# Altium footprint library ELRS-RX-MODULE-V11-20260204.PcbLib: 17 footprints (part 1 of 2)
Each footprint in its own frame and in the unit in brackets; x right, y up, seen from the top. Pads: shape width x height; smd on the part's side, far side on the other; paste and mask are expansions set on the pad; w line width, h text height; cw(c..) or ccw(c..) is an arc to the next point about the centre after c.
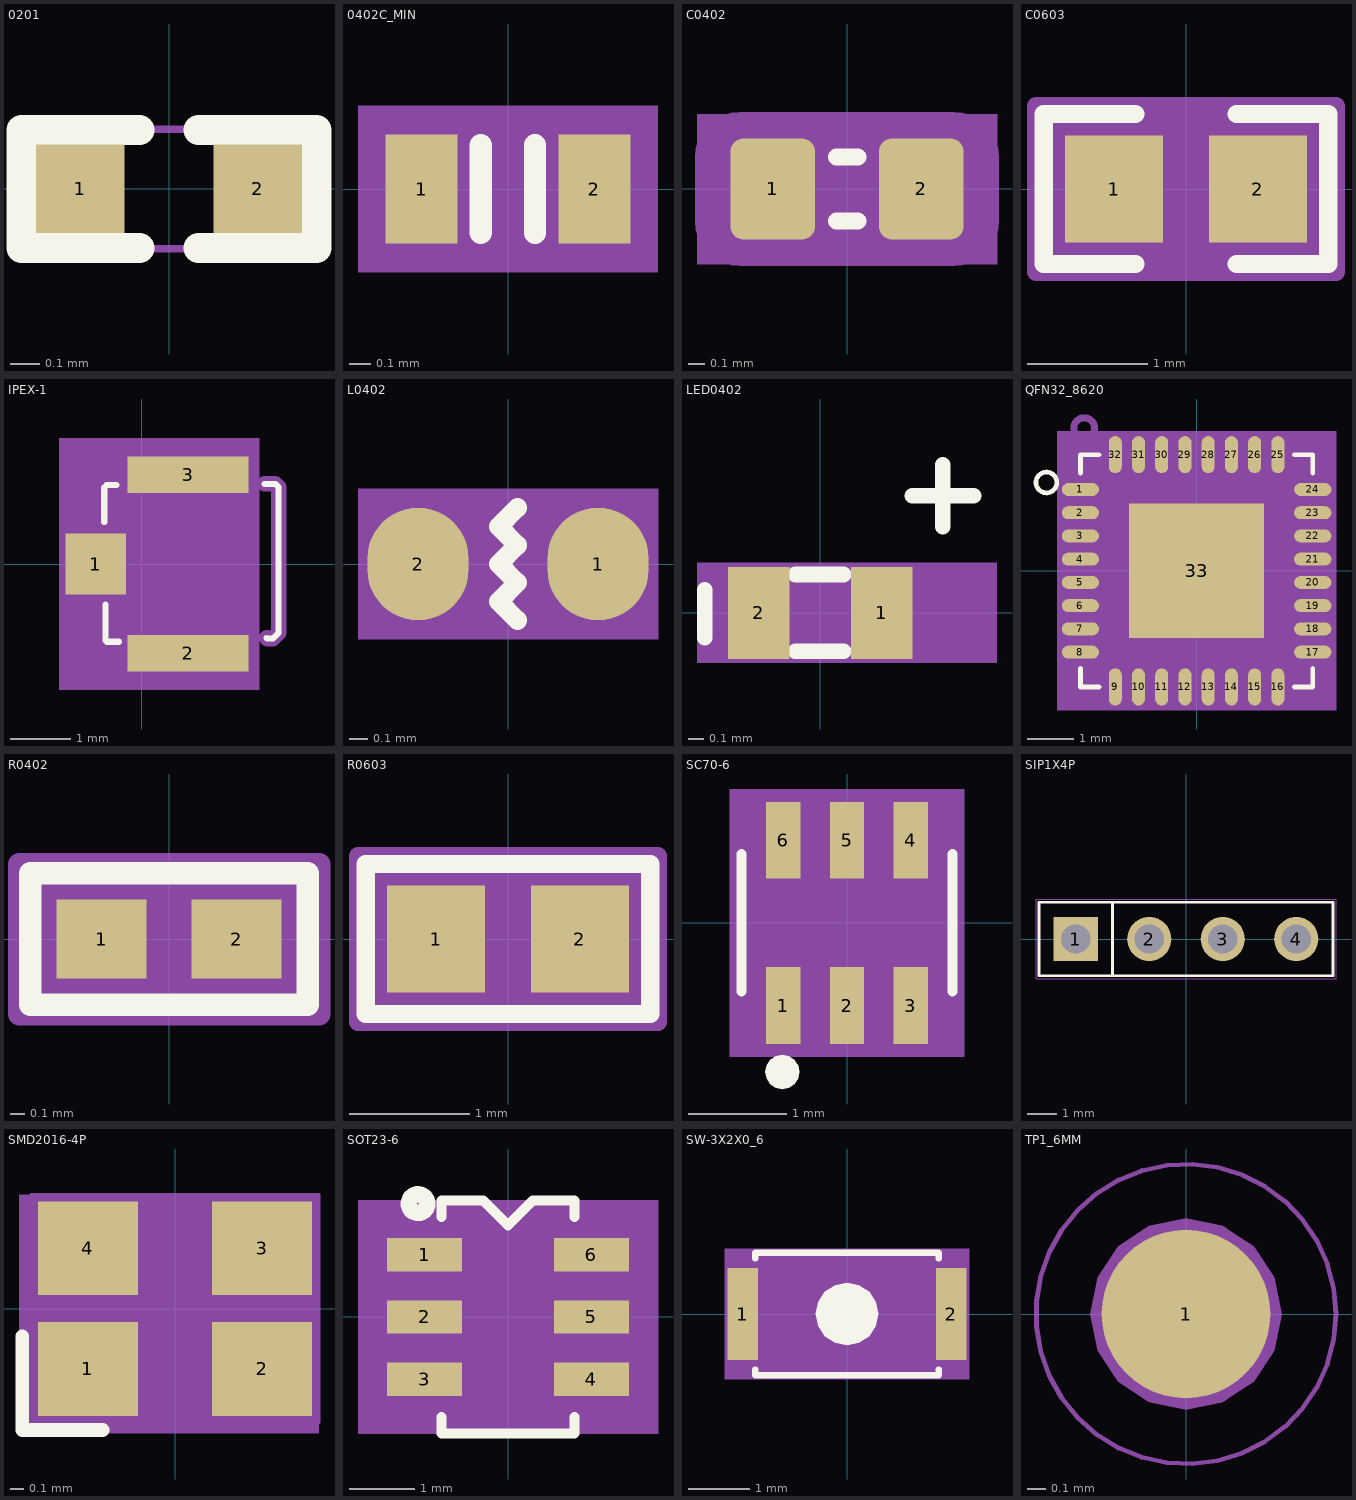
[diagram p0: the footprints below, top view; thin cyan lines are the x and y axes]

## 0201 [mil] "0201"
pads (2):
  rect 11.81x11.81 smd: 1(-11.81,0) 2(11.81,0)
Top Overlay:
  lines w4: -3.94,-7.88 -19.69,-7.88 -19.69,7.87 -3.94,7.87 ; 3.93,-7.88 19.68,-7.88 19.68,7.87 3.93,7.87
Top Assembly:
  lines w1: -20,-8 20,-8 20,7.98 -20,7.98 -20,-8
Mechanical 27:
  lines w2.36: -3.94,-7.88 -19.69,-7.88 -19.69,7.87 -3.94,7.87 ; 3.93,-7.88 19.68,-7.88 19.68,7.87 3.93,7.87
  text "C183" at 13.54,-40.79 h25

## 0402C_MIN [mil] "0402C_MIN"
pads (2):
  rect 12.99x19.69 smd: 1(-15.55,0) 2(15.55,0)
Top Overlay:
  lines w4: -4.89,-7.87 -4.89,7.87 ; 4.88,-7.87 4.88,7.87
Top 3D Body:
  region: -27.01,-15 27.01,-15 27.01,15 -27.01,15
Mechanical 16:
  text "1" at -21.98,0 h16.06
  text "2" at 9.13,0 h16.06
Top Assembly:
  lines w1: -20,-10 20,-10 20,10 -20,10 -20,-10
Mechanical 27:
  lines w5.91: -4.89,-7.87 -4.89,7.87 ; 4.88,-7.87 4.88,7.87
  text "C185" at 55.23,76.5 h25
3D body: height 150, standoff 0, extent -27.01,-15 27.01,15

## C0402 [mil] "C0402"
pads (2):
  rrect30% 19.67x23.61 smd: 1(-17.32,0) 2(17.32,0)
Top Overlay:
  lines w4: -2.49,-7.51 2.51,-7.51 ; -2.49,7.49 2.51,7.49
Top 3D Body:
  region: -35,17.49 -35,-17.51 35,-17.51 35,17.49
Mechanical 16:
  text "1" at -49.06,-6.29 h50
  text "2" at -15.95,-6.29 h50
Top Assembly:
  lines w0.98: -3.98,-2 4.01,-2 ; -3.98,2.01 4.01,2.01 ; 0,-7 0,-2 ; 0,2.01 0,7.01
  lines w1: -35,-7.51 ccw(c-24.99,-7.5) -25,-17.51 25,-17.51 ccw(c25,-7.51) 35,-7.51 35,7.49 ccw(c25.01,7.5) 25,17.49 -25,17.49 ccw(c-25,7.49) -35,7.49 -35,-7.51
Top Component Outline:
  lines w1: 9.84,-9.84 9.84,9.85 -9.81,9.85 -9.81,-9.84 -19.69,-9.84 ; -19.69,-9.84 -19.69,9.85 ; -19.69,-9.84 19.72,-9.84 19.72,9.85 -19.69,9.85 ; -19.69,-9.84 -19.69,9.85
Mechanical 27:
  lines w5.98: -2.49,-7.51 2.51,-7.51 ; -2.49,7.49 2.51,7.49
  text "C5" at 40.07,-41.14 h25
3D body: height 150, standoff 0, extent -35,-17.51 35,17.49

## C0603 [mil] "C0603"
pads (2):
  rect 32x35 smd: 1(-23.5,0) 2(23.5,0)
Top Overlay:
  lines w6: -16.5,-24.5 -46.5,-24.5 -46.5,24.5 -16.5,24.5 ; 16.5,-24.5 46.5,-24.5 46.5,24.5 16.5,24.5
Top 3D Body:
  region: -49,-27 49,-27 49,27 -49,27
Mechanical 16:
  text "1" at -23.5,0 h25
  text "2" at 23.5,0 h25
Top Assembly:
  lines w6: -49,-27 -49,27 49,27 49,-27 -49,-27
Mechanical 22:
  text "inside pitch:15mil" at -90,-120 h25
  text "Padstack:pad32x35" at -90,-170 h25
3D body: height 150, standoff 0, extent -49,-27 49,27

## IPEX-1 [mm] "IPEX-1"
pads (3):
  rect 1x1 smd: 1(-0.762,0)
  rect 2x0.6 smd: 2(0.762,-1.476) 3(0.762,1.476)
Top Overlay:
  lines w0.102: -0.622,0.695 -0.622,1.26 -0.58,1.302 -0.423,1.302 ; -0.601,-0.666 -0.601,-1.262 -0.58,-1.283 -0.381,-1.283 ; 2.026,1.323 2.203,1.323 2.256,1.27 2.256,-1.137 2.162,-1.231 2.067,-1.231 2.057,-1.22
Top 3D Body:
  region: -1.363,-2.077 1.938,-2.077 1.938,2.076 -1.363,2.076
Mechanical 16:
  text "1" at -1.016,0 h0.64
  text "3" at 0.508,1.475 h0.64
  text "2" at 0.508,-1.476 h0.64
Mechanical 27:
  lines w0.254: -0.622,0.695 -0.622,1.26 -0.58,1.302 -0.423,1.302 ; -0.601,-0.666 -0.601,-1.262 -0.58,-1.283 -0.381,-1.283 ; 2.026,1.323 2.203,1.323 2.256,1.27 2.256,-1.137 2.162,-1.231 2.067,-1.231 2.057,-1.22
  text "J1" at -1.496,-1.457 h0.64
3D body: height 3.81, standoff 0, extent -1.363,-2.077 1.938,2.076

## L0402 [mm] "L0402"
pads (2):
  oval 0.54x0.6 smd: 1(0.48,0) 2(-0.48,0)
Top Overlay:
  lines w0.102: 0.05,-0.3 -0.05,-0.2 0.05,-0.1 -0.05,0 0.05,0.1 -0.05,0.2 0.05,0.3
Top 3D Body:
  region: -0.8,0.4 0.8,0.4 0.8,-0.4 -0.8,-0.4
Mechanical 16:
  text "1" at 0.074,0 h1.02
  text "2" at -0.886,0 h1.02
Top Assembly:
  lines w0.025: -0.5,-0.25 0.5,-0.25 0.5,0.25 -0.5,0.25 -0.5,-0.25
Mechanical 27:
  lines w0.152: 0.05,-0.3 -0.05,-0.2 0.05,-0.1 -0.05,0 0.05,0.1 -0.05,0.2 0.05,0.3
  text "B1" at 0.571,-0.74 h0.64
3D body: height 3.81, standoff 0, extent -0.8,-0.4 0.8,0.4

## LED0402 [mil] "LED0402"
pads (2):
  rect 15.75x23.62 smd: 1(15.75,0) 2(-15.75,0)
Top Overlay:
  lines w4: -29.53,-6.38 -29.53,5.98 ; -6.38,-9.84 5.98,-9.84 ; -6.38,9.84 5.98,9.84 ; 23.56,30 39.31,30 ; 31.43,22.13 31.43,37.87
Top 3D Body:
  region: -31.5,-12.8 45.28,-12.8 45.28,12.8 -31.5,12.8
Mechanical 16:
  text "1" at 5.75,0 h25
  text "2" at -25.75,0 h25
Top Component Outline:
  lines w1: 9.84,-9.84 9.84,9.84 -9.84,9.84 -9.84,-9.84 -19.69,-9.84 ; -19.69,-9.84 -19.69,9.84 ; -19.69,-9.84 19.69,-9.84 19.69,9.84 -19.69,9.84 ; -19.69,-9.84 -19.69,9.84
3D body: height 150, standoff 0, extent -31.5,-12.8 45.28,12.8

## QFN32_8620 [mil] "QFN32_8620"
pads (33):
  oval 31.5x11.02 smd: 1(-98.43,68.9) 2(-98.43,49.21) 3(-98.43,29.53) 4(-98.43,9.84) 5(-98.43,-9.84) 6(-98.43,-29.53) 7(-98.43,-49.21) 8(-98.43,-68.9) 17(98.43,-68.9) 18(98.43,-49.21) 19(98.43,-29.53) 20(98.43,-9.84) 21(98.43,9.84) 22(98.43,29.53) 23(98.43,49.21) 24(98.43,68.9)
  oval 11.02x31.5 smd: 9(-68.9,-98.43) 10(-49.21,-98.43) 11(-29.53,-98.43) 12(-9.84,-98.43) 13(9.84,-98.43) 14(29.53,-98.43) 15(49.21,-98.43) 16(68.9,-98.43) 25(68.9,98.43) 26(49.21,98.43) 27(29.53,98.43) 28(9.84,98.43) 29(-9.84,98.43) 30(-29.53,98.43) 31(-49.21,98.43) 32(-68.9,98.43)
  rect 114.17x114.17 smd: 33(0,0)
Top Overlay:
  circle w4: c-127.24,74.83 r8.82
  lines w4: -98.43,-82.68 -98.43,-98.43 -82.68,-98.43 ; -98.43,82.68 -98.43,98.42 -82.68,98.42 ; 82.67,-98.43 98.42,-98.43 98.42,-82.68 ; 82.67,98.42 98.42,98.42 98.42,82.68
Top 3D Body:
  region: -118.11,118.11 -118.11,-118.11 118.11,-118.11 118.11,118.11
Mechanical 16:
  text "7" at -130.43,-49.21 h40
  text "3" at -130.43,29.53 h40
  text "13" at -54.16,-98.43 h40
  text "19" at 34.42,-29.53 h40
  text "25" at 4.89,98.42 h40
  text "9" at -100.9,-98.43 h40
  text "10" at -113.22,-98.43 h40
  text "6" at -130.43,-29.53 h40
  text "20" at 34.42,-9.84 h40
  text "31" at -113.22,98.42 h40
  text "29" at -73.85,98.42 h40
  text "17" at 34.42,-68.9 h40
  text "18" at 34.42,-49.21 h40
  text "5" at -130.43,-9.84 h40
  text "22" at 34.42,29.53 h40
  text "12" at -73.85,-98.43 h40
  text "21" at 34.42,9.84 h40
  text "15" at -14.79,-98.43 h40
  text "14" at -34.48,-98.43 h40
  text "2" at -130.43,49.21 h40
  text "1" at -130.43,68.9 h40
  text "30" at -93.53,98.42 h40
  text "28" at -54.16,98.42 h40
  text "33" at -32,0 h40
  text "27" at -34.48,98.42 h40
  text "16" at 4.89,-98.43 h40
  text "24" at 34.42,68.9 h40
  text "23" at 34.42,49.21 h40
  text "4" at -130.43,9.84 h40
  text "32" at -132.9,98.42 h40
  text "8" at -130.43,-68.9 h40
  text "26" at -14.79,98.42 h40
  text "11" at -93.53,-98.43 h40
Mechanical 27:
  circle w5.91: c-95.24,120.83 r8.82
  lines w5.91: -98.43,-82.68 -98.43,-98.43 -82.68,-98.43 ; -98.43,82.68 -98.43,98.42 -82.68,98.42 ; 82.67,-98.43 98.42,-98.43 98.42,-82.68 ; 82.67,98.42 98.42,98.42 98.42,82.68
  text "U1" at -123.9,87.48 h25
3D body: height 150, standoff 0, extent -118.11,-118.11 118.11,118.11

## R0402 [mil] "R0402"
pads (2):
  rect 24x21 smd: 1(-18,0) 2(18,0)
Top Overlay:
  lines w6: -37,-17.5 37,-17.5 ; -37,-17 -37,17 ; -37,17.5 37,17.5 ; 37,-17 37,17
Top 3D Body:
  region: -40,-20 40,-20 40,20 -40,20
Mechanical 16:
  text "1" at -18,0 h15.75
  text "2" at 18,0 h15.75
Mechanical 18:
  text "Padstack:pad21x24" at -100,-160 h25
  text "inside pitch:12mil" at -100,-110 h25
Top Assembly:
  lines w6: -40,-20 -40,20 40,20 40,-20 -40,-20
  text ".Designator" at 17.01,7.5 h15
3D body: height 150, standoff 0, extent -40,-20 40,20

## R0603 [mil] "R0603"
pads (2):
  rect 32x35 smd: 1(-23.5,0) 2(23.5,0)
Top Overlay:
  lines w6: -46.5,-24.5 46.5,-24.5 46.5,24.5 -46.5,24.5 -46.5,-24.5
Top 3D Body:
  region: -49,-27 49,-27 49,27 -49,27
Mechanical 16:
  text "1" at -23.5,0 h25
  text "2" at 23.5,0 h25
Mechanical 18:
  text "inside pitch:15mil" at -110,-120 h25
  text "Padstack:pad32x35" at -110,-170 h25
Top Assembly:
  lines w6: -49,-27 49,-27 49,27 -49,27 -49,-27
  text ".Designator" at -17.01,-7.5 h15
3D body: height 150, standoff 0, extent -49,-27 49,27

## SC70-6 [mm] "SC70-6"
pads (6):
  rect 0.35x0.78 smd: 1(-0.65,-0.84) 2(0,-0.84) 3(0.65,-0.84) 4(0.65,0.84) 5(0,0.84) 6(-0.65,0.84)
Top Overlay:
  region: -0.658,-1.688 -0.591,-1.675 -0.535,-1.638 -0.497,-1.581 -0.484,-1.515 -0.497,-1.449 -0.51,-1.43 -0.535,-1.392 -0.591,-1.355 -0.658,-1.341 -0.724,-1.355 -0.78,-1.392 -0.805,-1.43 -0.818,-1.449 -0.831,-1.515 -0.818,-1.581 -0.78,-1.638 -0.724,-1.675
  lines w0.102: -1.07,-0.7 -1.07,0.7 ; 1.07,-0.7 1.07,0.7
Top 3D Body:
  region: -1.19,1.36 -1.19,-1.36 1.19,-1.36 1.19,1.36
Mechanical 16:
  text "1" at -1.056,-0.84 h1.02
  text "4" at 0.244,0.84 h1.02
  text "5" at -0.406,0.84 h1.02
  text "6" at -1.056,0.84 h1.02
  text "3" at 0.244,-0.84 h1.02
  text "2" at -0.406,-0.84 h1.02
Mechanical 27:
  lines w0.15: -1.07,-0.7 -1.07,0.7 ; 1.07,-0.7 1.07,0.7
  text "U2" at -0.229,-0.15 h0.64
3D body: height 3.81, standoff 0, extent -1.19,-1.36 1.19,1.36

## SIP1X4P [mil] "SIP1X4P"
pads (4):
  rect 60x60 / inner round 60 / far side rect 60x60 hole 40: 1(-150,0)
  round 60 hole 40: 2(-50,0) 3(50,0) 4(150,0)
Top Overlay:
  lines w4: -100,-50 -100,50 ; -200,-50 200,-50 200,50 -200,50 -200,-50
Top 3D Body:
  lines w1: -204.02,-54.01 204.02,-54.01 204.02,54.02 -204.02,54.02 -204.02,-54.01
Mechanical 16:
  text "2" at -60,0 h25
  text "4" at 140,0 h25
  text "3" at 40,0 h25
  text "1" at -160,0 h25
Top Assembly:
  text "CON4" at -56,0 h35
  text ".Designator" at -13.14,-9.5 h15
Top Component Outline:
  text "CON4" at -56,0 h35
Mechanical 26:
  lines w1: -204.02,-54.01 204.02,-54.01 204.02,54.02 -204.02,54.02 -204.02,-54.01
Mechanical 28:
  text "CON4" at -56,0 h35

## SMD2016-4P [mm] "SMD2016-4P"
pads (4):
  rect 0.749x0.701 smd: 1(-0.65,-0.45) 2(0.65,-0.45) 3(0.65,0.45) 4(-0.65,0.45)
Top Overlay:
  lines w0.102: -1.14,-0.207 -1.14,-0.907 -0.54,-0.907
Top 3D Body:
  region: -1.165,-0.933 -1.165,0.851 1.075,0.851 1.075,-0.933
Mechanical 16:
  text "4" at -0.905,0.45 h0.64
  text "1" at -0.905,-0.449 h0.64
  text "3" at 0.396,0.45 h0.64
  text "2" at 0.396,-0.449 h0.64
Top Assembly:
  lines w0.025: -1.075,-0.85 -1.075,0.851 1.074,0.851 1.074,-0.85 -1.075,-0.85
  lines w0.051: -1.14,-0.207 -1.14,-0.907 -0.54,-0.907
Mechanical 27:
  lines w0.051: -1.14,-0.207 -1.14,-0.907 -0.54,-0.907
  text "X1" at -0.248,0.291 h0.64
3D body: height 3.81, standoff 0, extent -1.165,-0.851 1.075,0.933

## SOT23-6 [mil] "SOT23-6"
pads (6):
  rect 45x20 smd: 1(-50,37.4) 2(-50,0) 3(-50,-37.4) 4(50,-37.4) 5(50,0) 6(50,37.4)
Top Overlay:
  circle w9.84: c-54,68 r5.57
  lines w6: -40,-60 -40,-70 40,-70 40,-60 ; -40,60 -40,70 -15,70 0,55 15,70 40,70 40,60
Top 3D Body:
  region: -90,-70 90,-70 90,70 -90,70
Top Component Center:
  lines w1: -64.96,0 64.96,0 ; 0,-64.96 0,64.96
Mechanical 16:
  text "4" at 33.19,-51 h29.53
  text "1" at -64.81,27 h29.53
  text "6" at 33.19,28 h29.53
  text "5" at 34.19,-17 h29.53
  text "2" at -65.81,-17 h29.53
  text "3" at -64.81,-59 h29.53
Bottom Component Outline:
  text "1.6X2.9X1.5MM(BODY SIZE)" at -94.21,-153.83 h25
  text "2.8X2.9X1.5mm(ALL)" at -94.21,-199.11 h25
Top Assembly:
  lines w1: -31.5,-47.24 -55.12,-47.24 -55.12,47.24 -31.5,47.24 ; 31.5,-47.24 55.12,-47.24 55.12,47.24 31.5,47.24 31.5,35.04 ; -31.5,-57.09 -31.5,57.09 31.5,57.09 31.5,-57.09 -31.5,-57.09
  text ".Designator" at 7.5,4 h15
  text "MS2630" at -70.08,-59.84 h29.53
3D body: height 150, standoff 0, extent -90,-70 90,70

## SW-3X2X0_6 [mil] "SW-3X2X0_6"
pads (2):
  rect 19.69x59.06 smd: 1(-66.93,0) 2(66.93,0)
Top Overlay:
  region: 0,-20.08 7.68,-18.55 14.2,-14.2 18.55,-7.68 20.08,0 18.55,7.69 17.09,9.87 14.2,14.2 7.68,18.55 0,20.08 -7.68,18.55 -14.2,14.2 -17.09,9.87 -18.55,7.69 -20.08,0 -18.55,-7.68 -14.2,-14.2 -7.68,-18.55
  lines w4: -59.05,-35.67 -59.05,-39.37 59.06,-39.37 59.06,-35.67 ; -59.05,35.75 -59.05,39.37 59.06,39.37 59.06,35.75
Top 3D Body:
  region: -78.74,-41.89 78.74,-41.89 78.74,41.89 -78.74,41.89
Mechanical 16:
  text "2" at 76.93,0 h25
  text "1" at -56.93,0 h25
3D body: height 150, standoff 0, extent -78.74,-41.89 78.74,41.89

## TP1_6MM [mil] "TP1_6MM"
pads (1):
  round 36 smd: 1(0,0)
Top 3D Body:
  region: -20.39,0 -18.84,-7.8 -14.42,-14.42 -7.8,-18.84 0,-20.39 7.8,-18.84 10.02,-17.36 14.42,-14.42 18.84,-7.8 20.39,0 18.84,7.8 14.42,14.42 10.02,17.36 7.8,18.84 0,20.39 -7.8,18.84 -14.42,14.42 -18.84,7.8
Mechanical 16:
  text "1" at -4,0 h10
Top Assembly:
  circle w1: c0,0 r32
  text "NC" at -38.87,61 h49.21
Mechanical 24:
  text "TPAD40" at -114,-83.5 h49.21
  text "SR40" at -86.5,-139.5 h49.21
Top Component Outline:
  text ".Designator" at -18,-8 h15
3D body: height 150, standoff 0, extent -20.39,-20.39 20.39,20.39